# Altium footprint library MEC-STD-TEST_POINT_DIAM1.4.pcblib: 1 footprints
Each footprint in its own frame and in the unit in brackets; x right, y up, seen from the top. Pads: shape width x height; smd on the part's side, far side on the other; paste and mask are expansions set on the pad; w line width, h text height; cw(c..) or ccw(c..) is an arc to the next point about the centre after c.
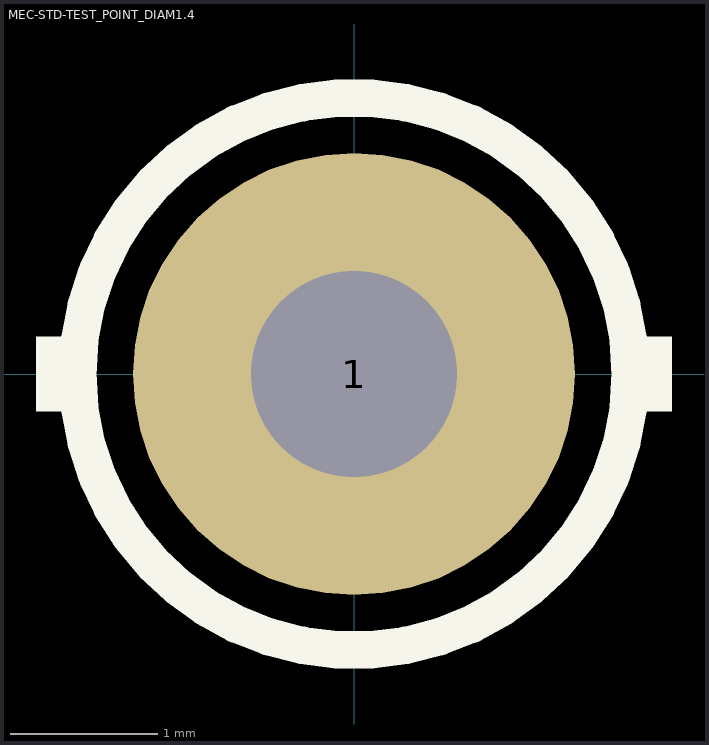
[diagram p0: the footprint, top view; thin cyan lines are the x and y axes]

## MEC-STD-TEST_POINT_DIAM1.4 [mm] "test point, hole diameter 1.4mm"
height 8
pads (1):
  round 3 hole 1.4: 1(0,0)
Top Overlay:
  circle w0.254: c0,0 r1.875
  rectangle: 1.905,-0.254 2.159,0.254
  rectangle: -2.159,-0.254 -1.905,0.254
3D body: height 8.6, standoff -3.2, extent -1.5,-1.5 1.5,1.5